# EAGLE library part ORIENTATION-BNO055 (library Seeed-OPL-sensor)
314990019
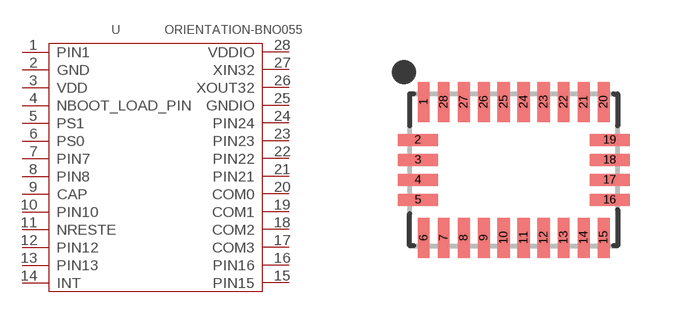
[diagram p15: symbol with the pads of LGA28-0.5-5.2X3.8; footprint LGA28-0.5-5.2X3.8]

Designator prefix U

## ORIENTATION-BNO055  [LGA28-0.5-5.2X3.8]
1  PIN1
2  GND
3  VDD
4  NBOOT_LOAD_PIN
5  PS1
6  PS0
7  PIN7
8  PIN8
9  CAP
10  PIN10
11  NRESTE
12  PIN12
13  PIN13
14  INT
15  PIN15
16  PIN16
17  COM3
18  COM2
19  COM1
20  COM0
21  PIN21
22  PIN22
23  PIN23
24  PIN24
25  GNDIO
26  XOUT32
27  XIN32
28  VDDIO

## Footprint LGA28-0.5-5.2X3.8 (pad centres in mm)
smd 0.3 x 1: 1 -2.25,1.7; 6 -2.25,-1.7; 7 -1.75,-1.7; 8 -1.25,-1.7; 9 -0.75,-1.7; 10 -0.25,-1.7; 11 0.25,-1.7; 12 0.75,-1.7; 13 1.25,-1.7; 14 1.75,-1.7; 15 2.25,-1.7; 20 2.25,1.7; 21 1.75,1.7; 22 1.25,1.7; 23 0.75,1.7; 24 0.25,1.7; 25 -0.25,1.7; 26 -0.75,1.7; 27 -1.25,1.7; 28 -1.75,1.7
smd 1 x 0.3: 2 -2.4,0.75; 3 -2.4,0.25; 4 -2.4,-0.25; 5 -2.4,-0.75; 16 2.4,-0.75; 17 2.4,-0.25; 18 2.4,0.25; 19 2.4,0.75